# EAGLE library part SC**ND (library ictt-3U_v5)
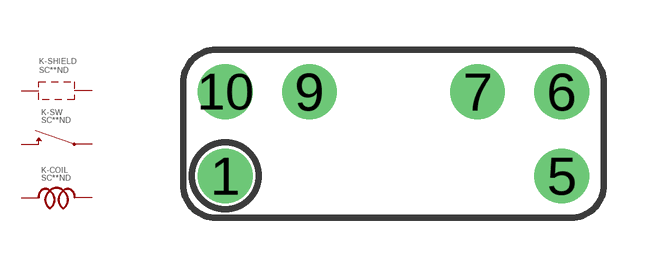
[diagram p1: symbol with the pads of SCXXND; footprint SCXXND]

Designator prefix K; gates -SW=1SW -COIL=COIL -SHIELD=SHIELD-2PIN

## SCND  [SCXXND]
1  -SW:IN
5  -SW:OFF/ON
6  -SHIELD:P$1
7  -COIL:COIL1
9  -COIL:COIL2
10  -SHIELD:P$2

## Footprint SCXXND (pad centres in mm)
drill 1.1 round: 1 -5.08,-1.27; 5 5.08,-1.27; 6 5.08,1.27; 7 2.54,1.27; 9 -2.54,1.27; 10 -5.08,1.27